# Altium schematic symbol library DISPLAY - PMOLED.SchLib: 2 symbols
Pins are listed as number, name and electrical type; pins without a type are passive.

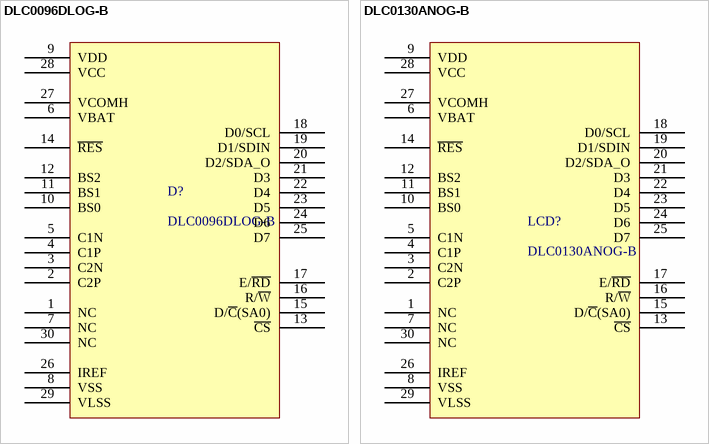
[diagram p0: symbols DLC0096DLOG-B to DLC0130ANOG-B]

## DLC0096DLOG-B
designator D?
0.96" PMOLED Display; Part Number: DLC0096DLOG-B
footprint PMOLED_0096_TOP_CONB
pins: 1 NC, 2 C2P, 3 C2N, 4 C1P, 5 C1N, 6 VBAT, 7 NC, 8 VSS, 9 VDD, 10 BS0, 11 BS1, 12 BS2, 13 ~{CS}, 14 ~{RES}, 15 D/~{C}(SA0), 16 R/~{W}, 17 E/~{RD}, 18 D0/SCL, 19 D1/SDIN, 20 D2/SDA_O, 21 D3, 22 D4, 23 D5, 24 D6, 25 D7, 26 IREF, 27 VCOMH, 28 VCC, 29 VLSS, 30 NC

## DLC0130ANOG-B
designator LCD?
1.3" PMOLED Display; Part Number: DLC0130ANOG-B
footprint DLC0130ANOG-B-CONB
pins: 1 NC, 2 C2P, 3 C2N, 4 C1P, 5 C1N, 6 VBAT, 7 NC, 8 VSS, 9 VDD, 10 BS0, 11 BS1, 12 BS2, 13 ~{CS}, 14 ~{RES}, 15 D/~{C}(SA0), 16 R/~{W}, 17 E/~{RD}, 18 D0/SCL, 19 D1/SDIN, 20 D2/SDA_O, 21 D3, 22 D4, 23 D5, 24 D6, 25 D7, 26 IREF, 27 VCOMH, 28 VCC, 29 VLSS, 30 NC